# Altium footprint library praline.PcbLib: 57 footprints (part 3 of 4)
Each footprint in its own frame and in the unit in brackets; x right, y up, seen from the top. Pads: shape width x height; smd on the part's side, far side on the other; paste and mask are expansions set on the pad; w line width, h text height; cw(c..) or ccw(c..) is an arc to the next point about the centre after c.
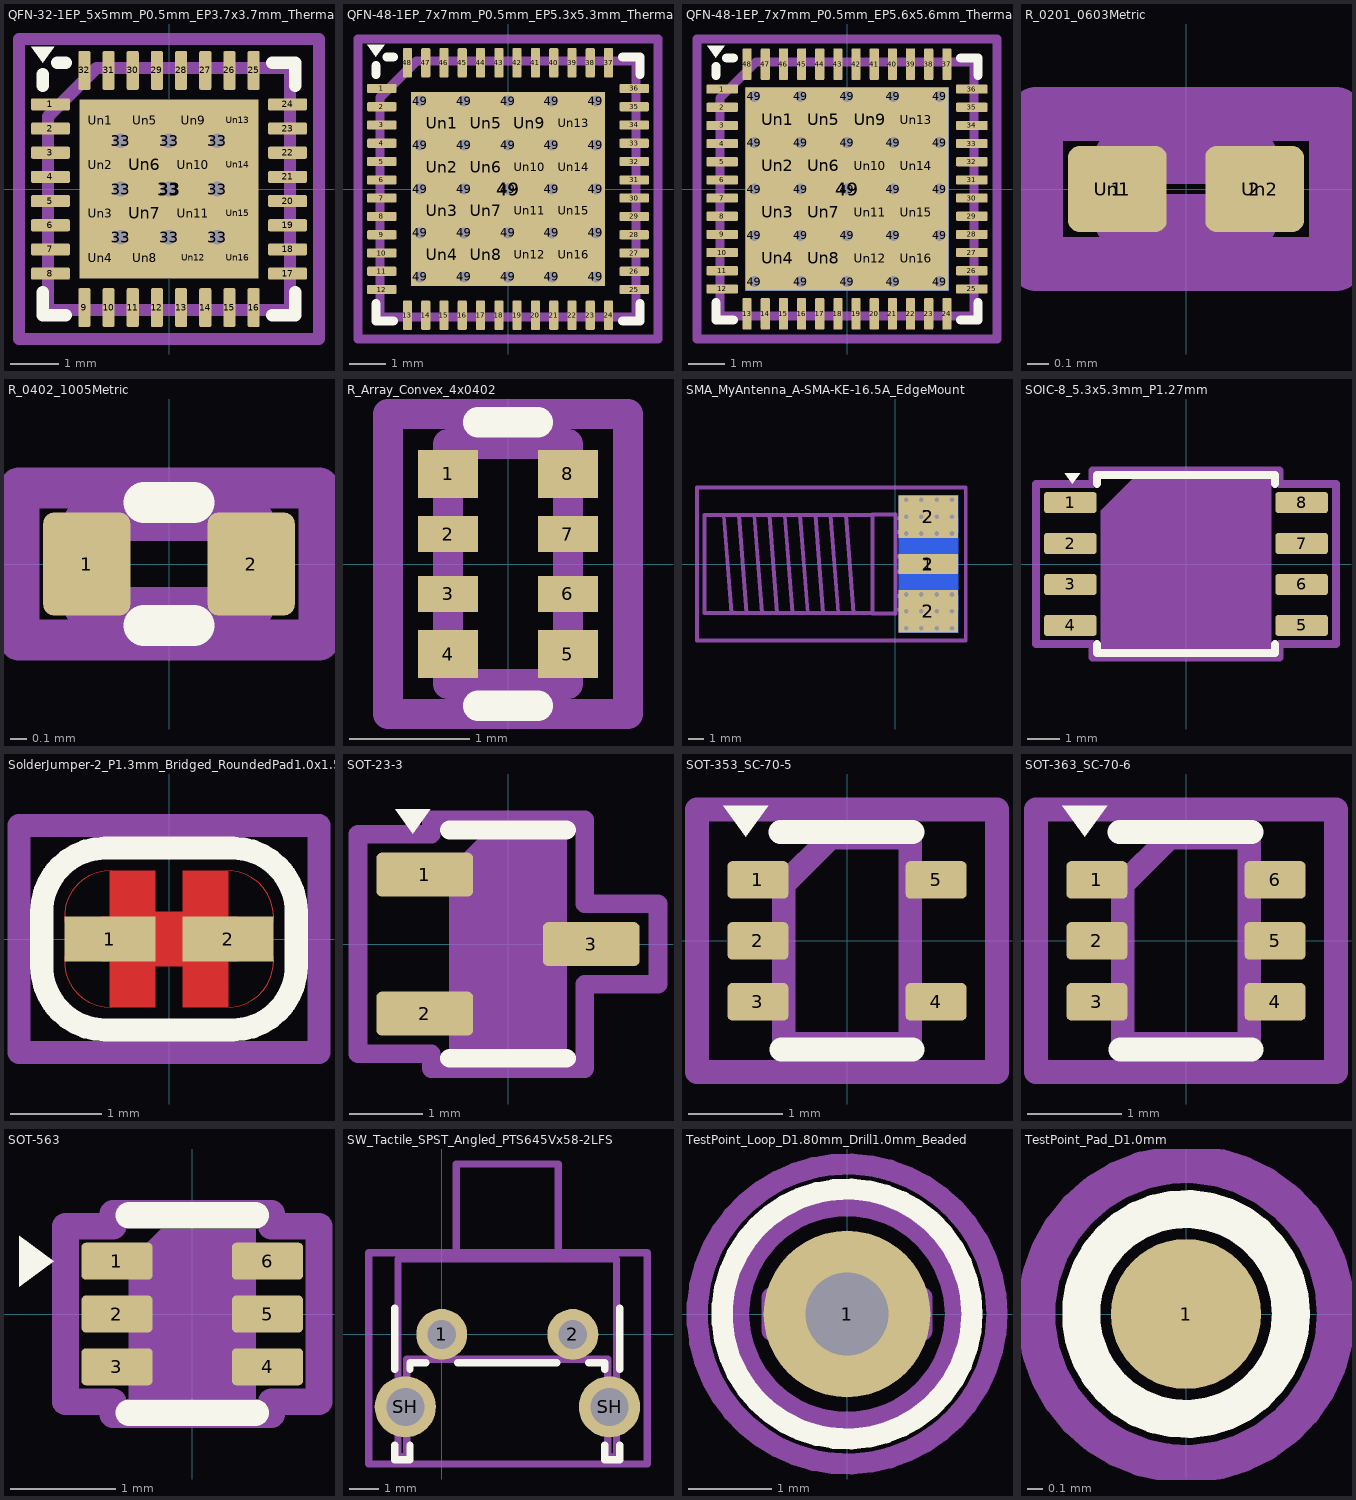
[diagram p2: the footprints below, top view; thin cyan lines are the x and y axes]

## QFN-32-1EP_5x5mm_P0.5mm_EP3.7x3.7mm_ThermalVias [mm]
pads (59):
  rrect25% 0.8x0.25 smd mask+0.05: 1(-2.45,1.75) 2(-2.45,1.25) 3(-2.45,0.75) 4(-2.45,0.25) 5(-2.45,-0.25) 6(-2.45,-0.75) 7(-2.45,-1.25) 8(-2.45,-1.75) 17(2.45,-1.75) 18(2.45,-1.25) 19(2.45,-0.75) 20(2.45,-0.25) 21(2.45,0.25) 22(2.45,0.75) 23(2.45,1.25) 24(2.45,1.75)
  rrect25% 0.25x0.8 smd mask+0.05: 9(-1.75,-2.45) 10(-1.25,-2.45) 11(-0.75,-2.45) 12(-0.25,-2.45) 13(0.25,-2.45) 14(0.75,-2.45) 15(1.25,-2.45) 16(1.75,-2.45) 25(1.75,2.45) 26(1.25,2.45) 27(0.75,2.45) 28(0.25,2.45) 29(-0.25,2.45) 30(-0.75,2.45) 31(-1.25,2.45) 32(-1.75,2.45)
  round 0.5 hole 0.3 mask+0.05: 33(-1,-1) 33(-1,0) 33(-1,1) 33(0,-1) 33(0,0) 33(0,1) 33(1,-1) 33(1,0) 33(1,1)
  rect 3.7x3.7 smd paste-3.7 mask+0.05: 33(0,0)
  rect 2.5x2.5 smd far side paste-2.5 mask-2.5: 33(0,0)
  round 0.602 on Top Paste mask-0.602: Un1(-1.425,1.425) Un4(-1.425,-1.425) Un13(1.425,1.425) Un16(1.425,-1.425)
  round 0.612 on Top Paste mask-0.612: Un2(-1.425,0.5) Un3(-1.425,-0.5) Un5(-0.5,1.425) Un8(-0.5,-1.425) Un9(0.5,1.425) Un12(0.5,-1.425) Un14(1.425,0.5) Un15(1.425,-0.5)
  rrect50% 0.806x0.806 on Top Paste mask-0.806: Un6(-0.5,0.5) Un7(-0.5,-0.5) Un10(0.5,0.5) Un11(0.5,-0.5)
Top Overlay:
  region: -2.61,2.61 -2.85,2.94 -2.37,2.94
  lines w0.254: -2.61,-2.135 -2.61,-2.61 -2.135,-2.61 ; -2.61,2.135 -2.61,2.37 ; -2.31,2.61 -2.135,2.61 ; 2.135,-2.61 2.61,-2.61 2.61,-2.135 ; 2.135,2.61 2.61,2.61 2.61,2.135
Top Paste:
  region: -1.166,1.235 -1.235,1.166 -1.684,1.166 -1.684,1.684 -1.166,1.684
  region: -1.156,0.769 -1.156,0.231 -1.216,0.17 -1.694,0.17 -1.694,0.83 -1.216,0.83
  region: -1.156,-0.231 -1.156,-0.769 -1.216,-0.83 -1.694,-0.83 -1.694,-0.17 -1.216,-0.17
  region: -1.166,-1.235 -1.166,-1.684 -1.684,-1.684 -1.684,-1.166 -1.235,-1.166
  region: -0.17,1.216 -0.231,1.156 -0.769,1.156 -0.83,1.216 -0.83,1.694 -0.17,1.694
  region: -0.17,-1.216 -0.17,-1.694 -0.83,-1.694 -0.83,-1.216 -0.769,-1.156 -0.231,-1.156
  region: 0.83,1.216 0.769,1.156 0.231,1.156 0.17,1.216 0.17,1.694 0.83,1.694
  region: 0.83,-1.216 0.83,-1.694 0.17,-1.694 0.17,-1.216 0.231,-1.156 0.769,-1.156
  region: 1.684,1.166 1.235,1.166 1.166,1.235 1.166,1.684 1.684,1.684
  region: 1.694,0.17 1.216,0.17 1.156,0.231 1.156,0.769 1.216,0.83 1.694,0.83
  region: 1.694,-0.83 1.216,-0.83 1.156,-0.769 1.156,-0.231 1.216,-0.17 1.694,-0.17
  region: 1.684,-1.684 1.166,-1.684 1.166,-1.235 1.235,-1.166 1.684,-1.166
Mechanical 6:
  lines w0.254: -2.5,-2.5 -2.5,1.5 -1.5,2.5 2.5,2.5 2.5,-2.5 -2.5,-2.5
  text "'.Designator'" at 0.276,-0.435 h1
Mechanical 15:
  lines w0.254: -3.1,-3.1 -3.1,3.1 3.1,3.1 3.1,-3.1 -3.1,-3.1

## QFN-48-1EP_7x7mm_P0.5mm_EP5.3x5.3mm_ThermalVias [mm]
pads (91):
  rrect25% 0.8x0.25 smd mask+0.05: 1(-3.45,2.75) 2(-3.45,2.25) 3(-3.45,1.75) 4(-3.45,1.25) 5(-3.45,0.75) 6(-3.45,0.25) 7(-3.45,-0.25) 8(-3.45,-0.75) 9(-3.45,-1.25) 10(-3.45,-1.75) 11(-3.45,-2.25) 12(-3.45,-2.75) 25(3.45,-2.75) 26(3.45,-2.25) 27(3.45,-1.75) 28(3.45,-1.25) 29(3.45,-0.75) 30(3.45,-0.25) 31(3.45,0.25) 32(3.45,0.75) 33(3.45,1.25) 34(3.45,1.75) 35(3.45,2.25) 36(3.45,2.75)
  rrect25% 0.25x0.8 smd mask+0.05: 13(-2.75,-3.45) 14(-2.25,-3.45) 15(-1.75,-3.45) 16(-1.25,-3.45) 17(-0.75,-3.45) 18(-0.25,-3.45) 19(0.25,-3.45) 20(0.75,-3.45) 21(1.25,-3.45) 22(1.75,-3.45) 23(2.25,-3.45) 24(2.75,-3.45) 37(2.75,3.45) 38(2.25,3.45) 39(1.75,3.45) 40(1.25,3.45) 41(0.75,3.45) 42(0.25,3.45) 43(-0.25,3.45) 44(-0.75,3.45) 45(-1.25,3.45) 46(-1.75,3.45) 47(-2.25,3.45) 48(-2.75,3.45)
  round 0.5 hole 0.3 mask+0.05: 49(-2.4,-2.4) 49(-2.4,-1.2) 49(-2.4,0) 49(-2.4,1.2) 49(-2.4,2.4) 49(-1.2,-2.4) 49(-1.2,-1.2) 49(-1.2,0) 49(-1.2,1.2) 49(-1.2,2.4) 49(0,-2.4) 49(0,-1.2) 49(0,0) 49(0,1.2) 49(0,2.4) 49(1.2,-2.4) 49(1.2,-1.2) 49(1.2,0) 49(1.2,1.2) 49(1.2,2.4) 49(2.4,-2.4) 49(2.4,-1.2) 49(2.4,0) 49(2.4,1.2) 49(2.4,2.4)
  rect 5.3x5.3 smd paste-5.3 mask+0.05: 49(0,0)
  rect 5.3x5.3 smd far side paste-5.3 mask-5.3: 49(0,0)
  rrect50% 1.026x1.026 on Top Paste mask-1.026: Un1(-1.8,1.8) Un2(-1.8,0.6) Un3(-1.8,-0.6) Un4(-1.8,-1.8) Un5(-0.6,1.8) Un6(-0.6,0.6) Un7(-0.6,-0.6) Un8(-0.6,-1.8) Un9(0.6,1.8) Un10(0.6,0.6) Un11(0.6,-0.6) Un12(0.6,-1.8) Un13(1.8,1.8) Un14(1.8,0.6) Un15(1.8,-0.6) Un16(1.8,-1.8)
Top Overlay:
  region: -3.61,3.61 -3.85,3.94 -3.37,3.94
  lines w0.254: -3.61,-3.135 -3.61,-3.61 -3.135,-3.61 ; -3.61,3.135 -3.61,3.37 ; -3.31,3.61 -3.135,3.61 ; 3.135,-3.61 3.61,-3.61 3.61,-3.135 ; 3.135,3.61 3.61,3.61 3.61,3.135
Mechanical 6:
  lines w0.254: -3.5,-3.5 3.5,-3.5 3.5,3.5 -2.5,3.5 -3.5,2.5 -3.5,-3.5
  text "'.Designator'" at -0.28,0.656 h1
Mechanical 15:
  lines w0.254: -4.1,-4.1 -4.1,4.1 4.1,4.1 4.1,-4.1 -4.1,-4.1

## QFN-48-1EP_7x7mm_P0.5mm_EP5.6x5.6mm_ThermalVias [mm]
pads (91):
  rrect25% 0.875x0.25 smd mask+0.05: 1(-3.437,2.75) 2(-3.437,2.25) 3(-3.437,1.75) 4(-3.437,1.25) 5(-3.437,0.75) 6(-3.437,0.25) 7(-3.437,-0.25) 8(-3.437,-0.75) 9(-3.437,-1.25) 10(-3.437,-1.75) 11(-3.437,-2.25) 12(-3.437,-2.75) 25(3.437,-2.75) 26(3.437,-2.25) 27(3.437,-1.75) 28(3.437,-1.25) 29(3.437,-0.75) 30(3.437,-0.25) 31(3.437,0.25) 32(3.437,0.75) 33(3.437,1.25) 34(3.437,1.75) 35(3.437,2.25) 36(3.437,2.75)
  rrect25% 0.25x0.875 smd mask+0.05: 13(-2.75,-3.437) 14(-2.25,-3.437) 15(-1.75,-3.437) 16(-1.25,-3.437) 17(-0.75,-3.437) 18(-0.25,-3.437) 19(0.25,-3.437) 20(0.75,-3.437) 21(1.25,-3.437) 22(1.75,-3.437) 23(2.25,-3.437) 24(2.75,-3.437) 37(2.75,3.437) 38(2.25,3.437) 39(1.75,3.437) 40(1.25,3.437) 41(0.75,3.437) 42(0.25,3.437) 43(-0.25,3.437) 44(-0.75,3.437) 45(-1.25,3.437) 46(-1.75,3.437) 47(-2.25,3.437) 48(-2.75,3.437)
  round 0.5 hole 0.3 mask+0.05: 49(-2.55,-2.55) 49(-2.55,-1.275) 49(-2.55,0) 49(-2.55,1.275) 49(-2.55,2.55) 49(-1.275,-2.55) 49(-1.275,-1.275) 49(-1.275,0) 49(-1.275,1.275) 49(-1.275,2.55) 49(0,-2.55) 49(0,-1.275) 49(0,0) 49(0,1.275) 49(0,2.55) 49(1.275,-2.55) 49(1.275,-1.275) 49(1.275,0) 49(1.275,1.275) 49(1.275,2.55) 49(2.55,-2.55) 49(2.55,-1.275) 49(2.55,0) 49(2.55,1.275) 49(2.55,2.55)
  rect 5.6x5.6 smd paste-5.6 mask+0.05: 49(0,0)
  rect 5.6x5.6 smd far side paste-5.6 mask-5.6: 49(0,0)
  rrect50% 1.084x1.084 on Top Paste mask-1.084: Un1(-1.913,1.913) Un2(-1.913,0.637) Un3(-1.913,-0.637) Un4(-1.913,-1.913) Un5(-0.637,1.913) Un6(-0.637,0.637) Un7(-0.637,-0.637) Un8(-0.637,-1.913) Un9(0.637,1.913) Un10(0.637,0.637) Un11(0.637,-0.637) Un12(0.637,-1.913) Un13(1.913,1.913) Un14(1.913,0.637) Un15(1.913,-0.637) Un16(1.913,-1.913)
Top Overlay:
  region: -3.61,3.61 -3.85,3.94 -3.37,3.94
  lines w0.254: -3.61,-3.135 -3.61,-3.61 -3.135,-3.61 ; -3.61,3.135 -3.61,3.37 ; -3.31,3.61 -3.135,3.61 ; 3.135,-3.61 3.61,-3.61 3.61,-3.135 ; 3.135,3.61 3.61,3.61 3.61,3.135
Mechanical 6:
  lines w0.254: -3.5,-3.5 3.5,-3.5 3.5,3.5 -2.5,3.5 -3.5,2.5 -3.5,-3.5
  text "'.Designator'" at -0.277,0.659 h1
Mechanical 15:
  lines w0.254: -4.13,-4.13 -4.13,4.13 4.13,4.13 4.13,-4.13 -4.13,-4.13

## R_0201_0603Metric [mm]
pads (4):
  rrect25% 0.46x0.4 smd paste-0.46 mask+0.05: 1(-0.32,0) 2(0.32,0)
  rrect50% 0.318x0.36 on Top Paste mask-0.36: Un1(-0.345,0) Un2(0.345,0)
Mechanical 6:
  lines w0.254: -0.3,-0.15 -0.3,0.15 0.3,0.15 0.3,-0.15 -0.3,-0.15
  text "'.Designator'" at -1.114,-0.07 h0.25
Mechanical 15:
  lines w0.254: -0.7,-0.35 -0.7,0.35 0.7,0.35 0.7,-0.35 -0.7,-0.35

## R_0402_1005Metric [mm]
pads (2):
  rrect25% 0.54x0.64 smd mask+0.05: 1(-0.51,0) 2(0.51,0)
Top Overlay:
  lines w0.254: -0.154,-0.38 0.154,-0.38 ; -0.154,0.38 0.154,0.38
Mechanical 6:
  lines w0.254: -0.525,-0.27 -0.525,0.27 0.525,0.27 0.525,-0.27 -0.525,-0.27
  text "'.Designator'" at -0.167,-0.073 h0.26
Mechanical 15:
  lines w0.254: -0.93,-0.47 -0.93,0.47 0.93,0.47 0.93,-0.47 -0.93,-0.47

## R_Array_Convex_4x0402 [mm]
pads (8):
  rect 0.5x0.4 smd mask+0.05: 1(-0.5,0.75) 4(-0.5,-0.75) 5(0.5,-0.75) 8(0.5,0.75)
  rect 0.5x0.3 smd mask+0.05: 2(-0.5,0.25) 3(-0.5,-0.25) 6(0.5,-0.25) 7(0.5,0.25)
Top Overlay:
  lines w0.254: -0.25,-1.18 0.25,-1.18 ; -0.25,1.18 0.25,1.18
Mechanical 6:
  lines w0.254: -0.5,-1 -0.5,1 0.5,1 0.5,-1 -0.5,-1
  text "'.Designator'" at 0.14,-0.322 h0.5
Mechanical 15:
  lines w0.254: -1,-1.25 -1,1.25 1,1.25 1,-1.25 -1,-1.25

## SMA_MyAntenna_A-SMA-KE-16.5A_EdgeMount [mm]
pads (30):
  rect 3.9x1.3 smd paste-3.9 mask+0.05: 1(2.15,0)
  round 0.45 hole 0.3 mask+0.05: 2(0.7,-4.2) 2(0.7,-3.1) 2(0.7,-2) 2(0.7,2) 2(0.7,3.1) 2(0.7,4.2) 2(1.7,-4.2) 2(1.7,-3.1) 2(1.7,-2) 2(1.7,2) 2(1.7,3.1) 2(1.7,4.2) 2(2.7,-4.2) 2(2.7,-3.1) 2(2.7,-2) 2(2.7,2) 2(2.7,3.1) 2(2.7,4.2) 2(3.7,-4.2) 2(3.7,-3.1) 2(3.7,-2) 2(3.7,2) 2(3.7,3.1) 2(3.7,4.2)
  rect 3.9x2.8 smd paste-3.9 mask+0.05: 2(2.15,-3.1) 2(2.15,3.1)
  rect 3.9x2.8 smd far side paste-3.9 mask+0.05: 2(2.15,-3.1) 2(2.15,3.1)
  rect 3.9x9 smd far side paste-9 mask-9: 2(2.15,0)
Mechanical 6:
  lines w0.254: -11.25,3.2 -10.75,-3.2 ; -10.25,3.2 -9.75,-3.2 ; -9.25,3.2 -8.75,-3.2 ; -8.25,3.2 -7.75,-3.2 ; -7.25,3.2 -6.75,-3.2 ; -6.25,3.2 -5.75,-3.2 ; -5.25,3.2 -4.75,-3.2 ; -4.25,3.2 -3.75,-3.2 ; -3.25,3.2 -2.75,-3.2 ; -1.5,-3.2 -12.5,-3.2 -12.5,3.2 -1.5,3.2 ; 0,-3 4,-3 4,-2.1 0,-2.1 ; 0,-0.5 4,-0.5 4,0.5 0,0.5 ; 0,2.1 4,2.1 4,3 0,3 ; -1.5,-3.25 -1.5,3.25 0,3.25 0,-3.25 -1.5,-3.25
  text "'.Designator'" at -1.123,0.409 h1
Mechanical 15:
  lines w0.254: -13,-5 4.6,-5 4.6,5 -13,5 -13,-5

## SOIC-8_5.3x5.3mm_P1.27mm [mm]
pads (8):
  rrect25% 1.625x0.65 smd mask+0.05: 1(-3.588,1.905) 2(-3.588,0.635) 3(-3.588,-0.635) 4(-3.588,-1.905) 5(3.588,-1.905) 6(3.588,-0.635) 7(3.588,0.635) 8(3.588,1.905)
Top Overlay:
  region: -3.525,2.49 -3.765,2.82 -3.285,2.82
  lines w0.254: -2.76,-2.49 -2.76,-2.76 0,-2.76 2.76,-2.76 2.76,-2.49 ; -2.76,2.49 -2.76,2.76 0,2.76 2.76,2.76 2.76,2.49
Mechanical 6:
  region: 2.65,-2.65 -2.65,-2.65 -2.65,1.65 -1.65,2.65 2.65,2.65
  text "'.Designator'" at 0.662,0.28 h1
Mechanical 15:
  lines w0.254: -4.65,-2.48 -2.9,-2.48 -2.9,-2.9 2.9,-2.9 2.9,-2.48 4.65,-2.48 4.65,2.48 2.9,2.48 2.9,2.9 -2.9,2.9 -2.9,2.48 -4.65,2.48 -4.65,-2.48

## SolderJumper-2_P1.3mm_Bridged_RoundedPad1.0x1.5mm [mm]
pads (2):
  rect 1x0.5 smd paste-1 mask+0.05: 1(-0.65,0) 2(0.65,0)
Top Layer:
  circle w0: c-0.65,-0.25 r0.5
  circle w0: c-0.65,0.25 r0.5
  circle w0: c0.65,-0.25 r0.5
  circle w0: c0.65,0.25 r0.5
  region: 0.25,-0.3 -0.25,-0.3 -0.25,0.3 0.25,0.3
  region: -0.15,-0.75 -0.65,-0.75 -0.65,0.75 -0.15,0.75
  region: 0.65,-0.75 0.15,-0.75 0.15,0.75 0.65,0.75
Top Overlay:
  lines w0.254: -1.4,-0.3 ccw(c-0.7,-0.3) -0.7,-1 0.7,-1 ccw(c0.7,-0.3) 1.4,-0.3 1.4,0.3 ccw(c0.7,0.3) 0.7,1 -0.7,1 ccw(c-0.7,0.3) -1.4,0.3 -1.4,-0.3
Top Solder:
  circle w0: c-0.65,-0.25 r0.5
  circle w0: c-0.65,0.25 r0.5
  circle w0: c0.65,-0.25 r0.5
  circle w0: c0.65,0.25 r0.5
  region: -0.15,-0.75 -0.65,-0.75 -0.65,0.75 -0.15,0.75
  region: 0.65,-0.75 0.15,-0.75 0.15,0.75 0.65,0.75
  lines w0.254: -0.15,-0.75 -0.15,0.75 0.15,0.75 0.15,-0.75 -0.15,-0.75
Mechanical 15:
  lines w0.254: -1.65,-1.25 1.65,-1.25 1.65,1.25 -1.65,1.25 -1.65,-1.25

## SOT-23-3 [mm]
pads (3):
  rrect25% 1.325x0.6 smd mask+0.05: 1(-1.138,0.95) 2(-1.138,-0.95) 3(1.138,0)
Top Overlay:
  region: -1.3,1.51 -1.54,1.84 -1.06,1.84
  lines w0.254: -0.8,-1.56 0,-1.56 0.8,-1.56 ; -0.8,1.56 0,1.56 0.8,1.56
Mechanical 6:
  region: 0.8,-1.45 -0.8,-1.45 -0.8,1.05 -0.4,1.45 0.8,1.45
  text "'.Designator'" at 0.263,0.112 h0.4
Mechanical 15:
  lines w0.254: -2.05,-1.5 -1.05,-1.5 -1.05,-1.7 1.05,-1.7 1.05,-0.55 2.05,-0.55 2.05,0.55 1.05,0.55 1.05,1.7 -1.05,1.7 -1.05,1.5 -2.05,1.5 -2.05,-1.5

## SOT-353_SC-70-5 [mm]
pads (5):
  rrect25% 0.65x0.4 smd mask+0.05: 1(-0.95,0.65) 2(-0.95,0) 3(-0.95,-0.65) 4(0.95,-0.65) 5(0.95,0.65)
Top Overlay:
  region: -1.08,1.11 -1.32,1.44 -0.84,1.44
  lines w0.254: -0.71,1.16 0.7,1.16 ; -0.7,-1.16 0.7,-1.16
Mechanical 6:
  lines w0.254: -0.675,-1.1 0.675,-1.1 0.675,1.1 -0.175,1.1 -0.675,0.6 -0.675,-1.1
  text "'.Designator'" at -0.14,0.33 h0.5
Mechanical 15:
  lines w0.254: -1.6,-1.4 1.6,-1.4 1.6,1.4 -1.6,1.4 -1.6,-1.4

## SOT-363_SC-70-6 [mm]
pads (6):
  rrect25% 0.65x0.4 smd mask+0.05: 1(-0.95,0.65) 2(-0.95,0) 3(-0.95,-0.65) 4(0.95,-0.65) 5(0.95,0) 6(0.95,0.65)
Top Overlay:
  region: -1.08,1.11 -1.32,1.44 -0.84,1.44
  lines w0.254: -0.71,1.16 0.7,1.16 ; -0.7,-1.16 0.7,-1.16
Mechanical 6:
  lines w0.254: -0.675,-1.1 0.675,-1.1 0.675,1.1 -0.175,1.1 -0.675,0.6 -0.675,-1.1
  text "'.Designator'" at -0.176,0.216 h0.5
Mechanical 15:
  lines w0.254: -1.6,-1.4 1.6,-1.4 1.6,1.4 -1.6,1.4 -1.6,-1.4

## SOT-563 [mm]
pads (6):
  rrect25% 0.675x0.35 smd mask+0.05: 1(-0.713,0.5) 2(-0.713,0) 3(-0.713,-0.5) 4(0.713,-0.5) 5(0.713,0) 6(0.713,0.5)
Top Overlay:
  region: -1.31,0.5 -1.64,0.26 -1.64,0.74
  lines w0.254: -0.6,-0.935 0,-0.935 0.6,-0.935 ; -0.6,0.935 0,0.935 0.6,0.935
Mechanical 6:
  region: 0.6,-0.8 -0.6,-0.8 -0.6,0.5 -0.3,0.8 0.6,0.8
  text "'.Designator'" at 0.14,-0.172 h0.4
Mechanical 15:
  lines w0.254: -1.2,-0.83 -0.75,-0.83 -0.75,-0.95 0.75,-0.95 0.75,-0.83 1.2,-0.83 1.2,0.83 0.75,0.83 0.75,0.95 -0.75,0.95 -0.75,0.83 -1.2,0.83 -1.2,-0.83

## SW_Tactile_SPST_Angled_PTS645Vx58-2LFS [mm]
pads (4):
  round 1.75 hole 0.99 mask+0.05: 1(0,0) 2(4.5,0)
  round 2.1 hole 1.3 mask+0.05: SH(-1.25,-2.49) SH(5.76,-2.49)
Top Overlay:
  lines w0.254: -1.61,-3.8 -1.61,-4.31 -1.09,-4.31 -1.09,-3.8 ; -1.61,-1.2 -1.61,0.9 ; -1.09,-1.2 -1.09,-0.97 -0.55,-0.97 ; 0.55,-0.97 3.95,-0.97 ; 5.05,-0.97 5.59,-0.97 5.59,-1.2 ; 5.59,-3.8 5.59,-4.31 6.11,-4.31 6.11,-3.8 ; 6.11,-1.2 6.11,0.9
Mechanical 6:
  lines w0.254: 0.5,2.59 0.5,5.85 4,5.85 4,2.59 ; -1.5,-4.2 -1.5,2.59 6,2.59 6,-4.2 5.7,-4.2 5.7,-0.86 -1.2,-0.86 -1.2,-4.2 -1.5,-4.2
  text "'.Designator'" at 1.594,-1.96 h1
Mechanical 15:
  lines w0.254: -2.5,-4.45 7.05,-4.45 7.05,2.8 -2.5,2.8 -2.5,-4.45

## TestPoint_Loop_D1.80mm_Drill1.0mm_Beaded [mm]
pads (1):
  round 2 hole 1 mask+0.05: 1(0,0)
Top Overlay:
  circle w0.254: c0,0 r1.5
Mechanical 6:
  circle w0.254: c0,0 r1.3
  lines w0.254: -0.9,-0.2 -0.9,0.2 0.9,0.2 0.9,-0.2 -0.9,-0.2
  text "'.Designator'" at 0.036,-2.776 h1
Mechanical 15:
  circle w0.254: c0,0 r1.8

## TestPoint_Pad_D1.0mm [mm]
pads (1):
  round 1 smd paste-1 mask+0.05: 1(0,0)
Top Overlay:
  circle w0.254: c0,0 r0.7
Mechanical 5:
  text "'.Designator'" at 0.888,1.83 h1
Mechanical 16:
  circle w0.254: c0,0 r1